# Altium footprint library QFN40.PcbLib: 1 footprints
Each footprint in its own frame and in the unit in brackets; x right, y up, seen from the top. Pads: shape width x height; smd on the part's side, far side on the other; paste and mask are expansions set on the pad; w line width, h text height; cw(c..) or ccw(c..) is an arc to the next point about the centre after c.
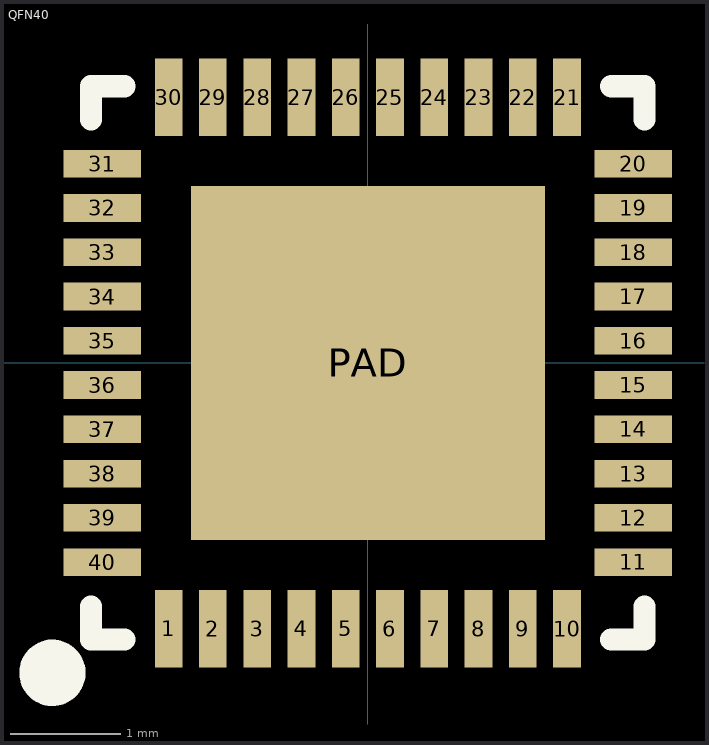
[diagram p0: the footprint, top view; thin cyan lines are the x and y axes]

## QFN40 [mm]
pads (41):
  rect 0.25x0.7 smd: 1(-1.8,-2.4) 2(-1.4,-2.4) 3(-1,-2.4) 4(-0.6,-2.4) 5(-0.2,-2.4) 6(0.2,-2.4) 7(0.6,-2.4) 8(1,-2.4) 9(1.4,-2.4) 10(1.8,-2.4) 21(1.8,2.4) 22(1.4,2.4) 23(1,2.4) 24(0.6,2.4) 25(0.2,2.4) 26(-0.2,2.4) 27(-0.6,2.4) 28(-1,2.4) 29(-1.4,2.4) 30(-1.8,2.4)
  rect 0.7x0.25 smd: 11(2.4,-1.8) 12(2.4,-1.4) 13(2.4,-1) 14(2.4,-0.6) 15(2.4,-0.2) 16(2.4,0.2) 17(2.4,0.6) 18(2.4,1) 19(2.4,1.4) 20(2.4,1.8) 31(-2.4,1.8) 32(-2.4,1.4) 33(-2.4,1) 34(-2.4,0.6) 35(-2.4,0.2) 36(-2.4,-0.2) 37(-2.4,-0.6) 38(-2.4,-1) 39(-2.4,-1.4) 40(-2.4,-1.8)
  rect 3.2x3.2 smd paste-10: PAD(0,0)
Top Overlay:
  circle w0.3: c-2.85,-2.8 r0.15
  lines w0.2: -2.5,-2.2 -2.5,-2.5 -2.2,-2.5 ; -2.5,2.2 -2.5,2.5 -2.2,2.5 ; 2.2,-2.5 2.5,-2.5 2.5,-2.2 ; 2.2,2.5 2.5,2.5 2.5,2.2
Top Paste:
  rectangle: -1,-1 1,1
  rectangle: -1.4,-1.4 -0.2,-0.2
  rectangle: 0.2,-1.4 1.4,-0.2
  rectangle: -1.4,0.2 -0.2,1.4
  rectangle: 0.2,0.2 1.4,1.4
3D body: height 0.73, standoff -0.02, extent -2.501,-2.501 2.501,2.501